# Altium footprint library GPI65030DFN.PcbLib: 1 footprints
Each footprint in its own frame and in the unit in brackets; x right, y up, seen from the top. Pads: shape width x height; smd on the part's side, far side on the other; paste and mask are expansions set on the pad; w line width, h text height; cw(c..) or ccw(c..) is an arc to the next point about the centre after c.
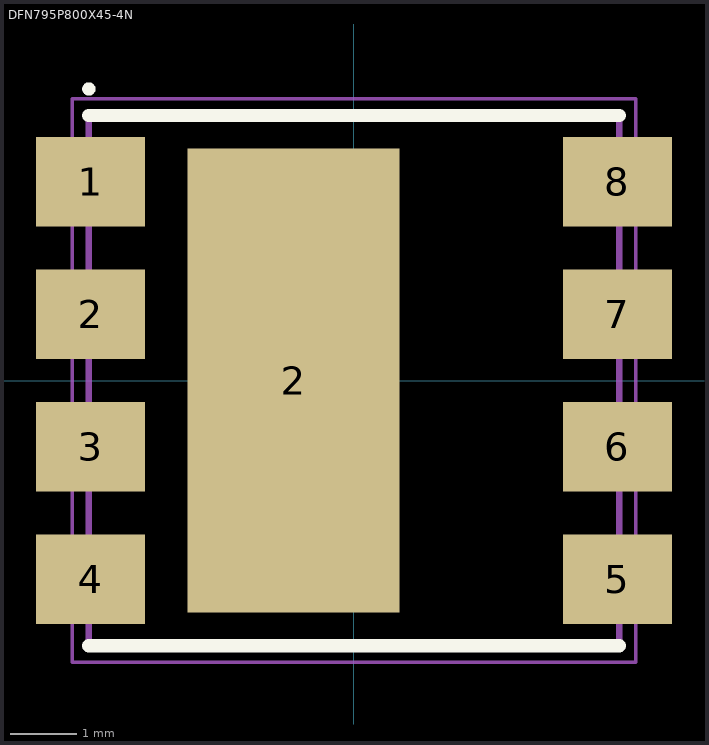
[diagram p0: the footprint, top view; thin cyan lines are the x and y axes]

## DFN795P800X45-4N [mm] "DFN, 4-Leads, Body 8.00x8.00mm, Pitch 7.95mm, IPC Medium Density"
height 0.45
pads (9):
  rect 1.65x1.35 smd: 1(-3.975,3) 2(-3.975,1) 3(-3.975,-1) 4(-3.975,-3) 5(3.975,-3) 6(3.975,-1) 7(3.975,1) 8(3.975,3)
  rect 3.2x7 smd: 2(-0.91,0)
Top Overlay:
  circle w0.1: c-4,4.4 r0.05
  lines w0.2: -4,-4 4,-4 ; -4,4 4,4
Mechanical 13:
  lines w0.1: -4,-4 -4,4 4,4 4,-4 -4,-4
Mechanical 15:
  lines w0.05: -4.25,-4.25 -4.25,4.25 4.25,4.25 4.25,-4.25 -4.25,-4.25
  lines w0.1: -0.5,0 0.5,0 ; 0,-0.5 0,0.5
3D body: height 0.45, standoff 0, extent -4,-4 4,4